# Altium schematic symbol library SamacSys.SchLib: 337 symbols (part 2 of 4)
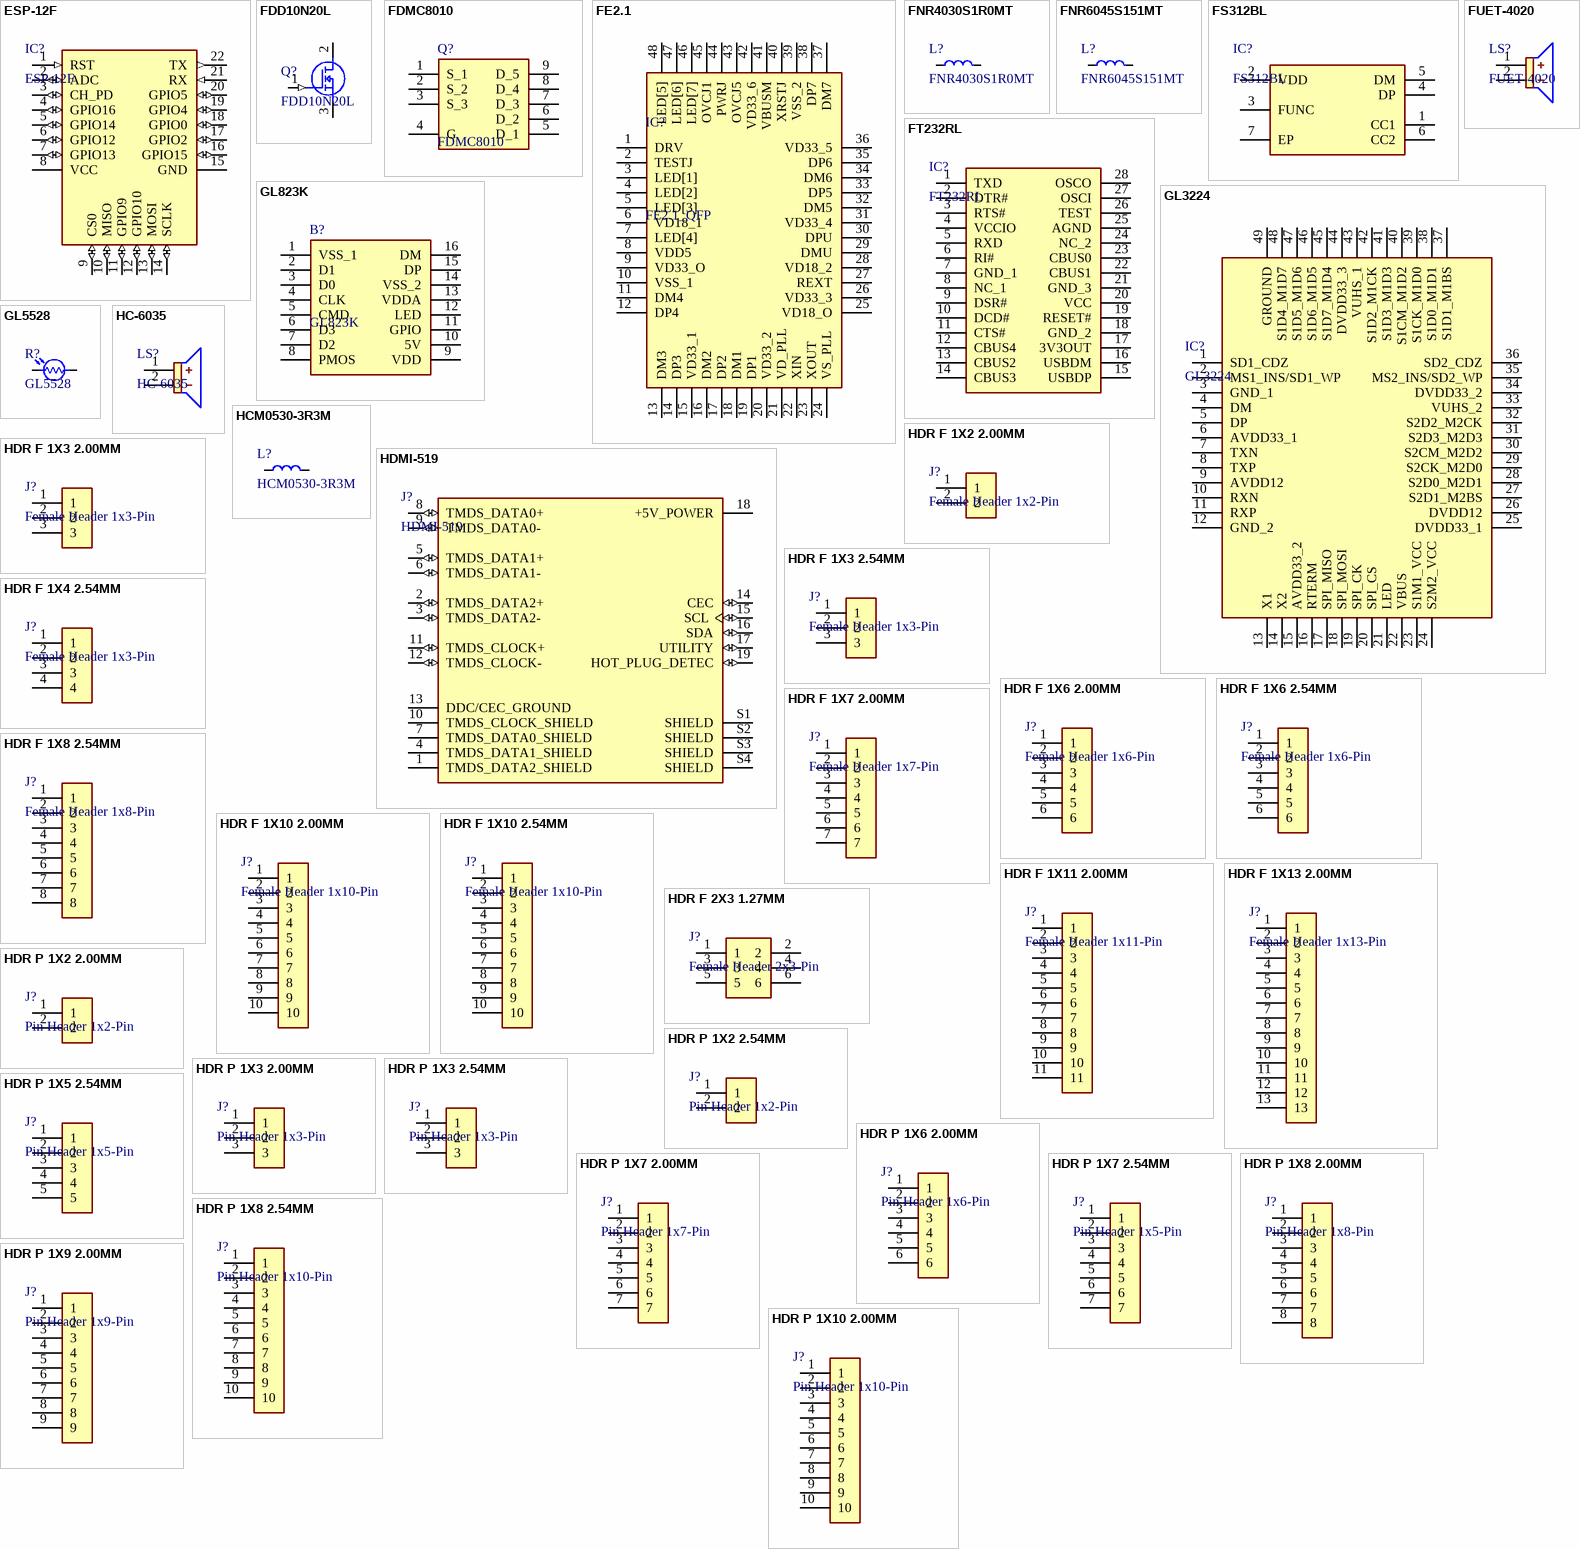
[diagram p11: symbols ESP-12F to HDR P 1X10 2.00MM]

## FE2.1
designator IC?, comment FE2.1_QFP
USB Converter, LQFP-48(7x7), USB 2.0, High Speed, 7-Port HUB Conrtoller, USB Converters ROHS; Manufacturer_Name: Terminus Technology; Geometry.Height: 1.6mm; Manufacturer_Part_Number: FE2.1_QFP; Mouser Part Number: *; Mouser Price/Stock: *; Arrow Part Number: *; Arrow Price/Stock: *; Datasheet Link: *; Value: FE2.1_QFP
footprint QFP50P900X900X160-48N
pins: 1 DRV, 2 TESTJ, 3 LED[1], 4 LED[2], 5 LED[3], 6 VD18_1, 7 LED[4], 8 VDD5, 9 VD33_O, 10 VSS_1, 11 DM4, 12 DP4, 13 DM3, 14 DP3, 15 VD33_1, 16 DM2, 17 DP2, 18 DM1, 19 DP1, 20 VD33_2, 21 VD_PLL, 22 XIN, 23 XOUT, 24 VS_PLL, 25 VD18_O, 26 VD33_3, 27 REXT, 28 VD18_2, 29 DMU, 30 DPU, 31 VD33_4, 32 DM5, 33 DP5, 34 DM6, 35 DP6, 36 VD33_5, 37 DM7, 38 DP7, 39 VSS_2, 40 XRSTJ, 41 VBUSM, 42 VD33_6, 43 OVCJ5, 44 PWRJ, 45 OVCJ1, 46 LED[7], 47 LED[6], 48 LED[5]

## FNR4030S1R0MT
designator L?
Fixed Inductor, SMD, 4x4mm, 1uH, 5.7A,  Magnetic Shielded Inductor, Fixed Inductors, RoHS; Value: FNR4030S1R0MT
footprint IND_SMD_4030
pins: 1, 2

## FNR6045S151MT
designator L?
Fixed Inductor, SMD, 6x6mm, 770mA, 150uH, Magnetic Shielded Inductor, ±20%, 880mA, 754mΩ, Fixed Inductors ROHS; Value: FNR6045S151MT
footprint IND_SMD_NR6045
footprint XR6*8-151K-L_FNR6045S151MT_SMD (Inductor)
pins: 1, 2

## FS312BL
designator IC?
USB Type-C PD Trigger, DFN2x2-6L, 5~20V, USB Type-C PD Triggers, ROHs; Value: FS312BL
footprint DFN2x2-6L
pins: 1 CC1, 2 VDD (power), 3 FUNC, 4 DP, 5 DM, 6 CC2, 7 EP

## FT232RL
designator IC?
USB Converter, SSOP-28-208mil, USB to UART, USB Converters ROHS; Datasheet Link: http://www.ftdichip.com/Support/Documents/DataSheets/ICs/DS_FT232R.pdf; Height: 2mm; Value: FT232RL
footprint SOP65P778X200-28N
pins: 1 TXD, 2 DTR#, 3 RTS#, 4 VCCIO, 5 RXD, 6 RI#, 7 GND_1, 8 NC_1, 9 DSR#, 10 DCD#, 11 CTS#, 12 CBUS4, 13 CBUS2, 14 CBUS3, 15 USBDP, 16 USBDM, 17 3V3OUT, 18 GND_2, 19 RESET#, 20 VCC, 21 GND_3, 22 CBUS1, 23 CBUS0, 24 NC_2, 25 AGND, 26 TEST, 27 OSCI, 28 OSCO

## FUET-4020
designator LS?
Buzzer, SMD, 4x4mm, 65dB, Passive (Externally Driven), Electromagnetic, 4kHz, Buzzers ROHS; Manufacturer_Name: Same Sky; Manufacturer_Part_Number: CMT-4023S-SMT-TR; Datasheet Link: https://www.sameskydevices.com/product/resource/cmt-4023s-smt-tr.pdf; Mouser Part Number: 490-CMT-4023S-SMT-TR; Mouser Price/Stock: https://www.mouser.co.uk/ProductDetail/CUI-Devices/CMT-4023S-SMT-TR?qs=qCxwlXJ4fnxjBoOShJwOAQ%3D%3D; Arrow Part Number: CMT-4023S-SMT-TR; Arrow Price/Stock: https://www.arrow.com/en/products/cmt-4023s-smt-tr/cui-devices?utm_currency=USD&region=nac; Value: FUET-4020
footprint FUET-4020
pins: 1, 2

## GL823K
designator B?
USB Converter, SSOP-16-150mil, USB Converters ROHS; Datasheet Link: http://www.electrodragon.com/w/images/c/cb/GL823K.pdf; Value: GL823K
footprint SOP64P600X175-16N
pins: 1 VSS_1, 2 D1, 3 D0, 4 CLK, 5 CMD, 6 D3, 7 D2, 8 PMOS, 9 VDD, 10 5V, 11 GPIO, 12 LED, 13 VDDA, 14 VSS_2, 15 DP, 16 DM

## GL3224
designator IC?
USB Converter, QFN-48(7x7mm), USB 3.1 Gen1, Dual/Single LUN Card Reader Controller, USB Converters ROHS; Datasheet Link: https://datasheet.lcsc.com/lcsc/1804172046_Genesys-Logic-GL3224-ONY04_C157358.pdf; Height: 0.8mm; Value: GL3224
footprint QFN50P700X700X80-49N
pins: 1 SD1_CDZ, 2 MS1_INS/SD1_WP, 3 GND_1, 4 DM, 5 DP, 6 AVDD33_1, 7 TXN, 8 TXP, 9 AVDD12, 10 RXN, 11 RXP, 12 GND_2, 13 X1, 14 X2, 15 AVDD33_2, 16 RTERM, 17 SPI_MISO, 18 SPI_MOSI, 19 SPI_CK, 20 SPI_CS, 21 LED, 22 VBUS, 23 S1M1_VCC, 24 S2M2_VCC, 25 DVDD33_1, 26 DVDD12, 27 S2D1_M2BS, 28 S2D0_M2D1, 29 S2CK_M2D0, 30 S2CM_M2D2, 31 S2D3_M2D3, 32 S2D2_M2CK, 33 VUHS_2, 34 DVDD33_2, 35 MS2_INS/SD2_WP, 36 SD2_CDZ, 37 S1D1_M1BS, 38 S1D0_M1D1, 39 S1CK_M1D0, 40 S1CM_M1D2, 41 S1D3_M1D3, 42 S1D2_M1CK, 43 VUHS_1, 44 DVDD33_3, 45 S1D7_M1D4, 46 S1D6_M1D5, 47 S1D5_M1D6, 48 S1D4_M1D7, 49 GROUND

## GL5528
designator R?
Photoresistor, Through Hole, P=3mm, 10kΩ~20kΩ, 540nm, 1MΩ, Photoresistors, ROHS; Datasheet Link: https://datasheet.datasheetarchive.com/originals/distributors/Datasheets-DGA19/1465.pdf; Value: GL5528
footprint Photoresistor
pins: 1, 2

## HC-6035
designator LS?
Buzzer, 6.7x3.5mm, 70dB, Passive (Externally Driven), Electromagnetic, 3.1kHz, Buzzers ROHS; Manufacturer_Name: Same Sky; Manufacturer_Part_Number: CMT-4023S-SMT-TR; Datasheet Link: https://www.sameskydevices.com/product/resource/cmt-4023s-smt-tr.pdf; Mouser Part Number: 490-CMT-4023S-SMT-TR; Mouser Price/Stock: https://www.mouser.co.uk/ProductDetail/CUI-Devices/CMT-4023S-SMT-TR?qs=qCxwlXJ4fnxjBoOShJwOAQ%3D%3D; Arrow Part Number: CMT-4023S-SMT-TR; Arrow Price/Stock: https://www.arrow.com/en/products/cmt-4023s-smt-tr/cui-devices?utm_currency=USD&region=nac; Value: HC-6035
footprint PB-0627PE
pins: 1, 2

## HCM0530-3R3M
designator L?
Fixed Inductor, SMD, 5.7x5.1mm, 3.3uH, 6A, Magnetic Shielded Inductor, ±20%, 46mΩ, Fixed Inductors ROHS; Value: HCM0530-3R3M
footprint IND_SMD_0520 (Inductor 0520 / 0530)
pins: 1, 2

## HDMI-519
designator J?
HDMI Connector, HDMI-C, SMD, -10℃~+60℃,  USB, DVI, HDMI Connector Assemblies, RoHS; MP: 2001-1-2-21-00-BK; MF: CNC Tech; Digi-Key_Purchase_URL: https://www.digikey.com/product-detail/en/cnc-tech/2001-1-2-21-00-BK/1175-1704-1-ND/4867013?utm_source=snapeda&utm_medium=aggregator&utm_campaign=symbol; Package: None; Digi-Key_Part_Number: 1175-1704-1-ND; Value: HDMI-519; SnapEDA_Link: https://www.snapeda.com/parts/2001-1-2-21-00-BK/CNC%20Tech/view-part/548992/?ref=snap
footprint HDMI-519 (Footprint not found)
pins: 1 TMDS_DATA2_SHIELD (power), 2 TMDS_DATA2+ (io), 3 TMDS_DATA2- (io), 4 TMDS_DATA1_SHIELD (power), 5 TMDS_DATA1+ (io), 6 TMDS_DATA1- (io), 7 TMDS_DATA0_SHIELD (power), 8 TMDS_DATA0+ (io), 9 TMDS_DATA0- (io), 10 TMDS_CLOCK_SHIELD (power), 11 TMDS_CLOCK+ (io), 12 TMDS_CLOCK- (io), 13 DDC/CEC_GROUND (power), 14 CEC (io), 15 SCL (io), 16 SDA (io), 17 UTILITY (io), 18 +5V_POWER (power), 19 HOT_PLUG_DETEC (io), S1 SHIELD (power), S2 SHIELD (power), S3 SHIELD (power), S4 SHIELD (power)

## HDR F 1X2 2.00MM
designator J?, comment Female Header 1x2-Pin
Female Header, 1x2-Pin, 2P, P=2.00mm, Direct Insert, H:4.3mm, W:2.4mm, D:2.8mm, Single Row, Black Brass, Top Square, Hole Plugin, 3A, 20mΩ, 550V, -40℃~+105℃, Female Headers, ROHS; Value: Female Header 1x2-Pin
footprint HEADER_FEMALE_2PIN_2.0MM
pins: 1, 2

## HDR F 1X3 2.00MM
designator J?, comment Female Header 1x3-Pin
Female Header, 1x3-Pin, 3P, P=2.00mm, Direct Insert, H:4.3mm, W:2.4mm, D:2.8mm, Single Row, Black Brass, Top Square, Hole Plugin, 3A, 20mΩ, 550V, -40℃~+105℃, Female Headers, ROHS; Value: Female Header 1x3-Pin
footprint HEADER_FEMALE_3PIN_2.0MM
pins: 1, 2, 3

## HDR F 1X3 2.54MM
designator J?, comment Female Header 1x3-Pin
Female Header, 1x3-Pin, 3P, P=2.54mm, Direct Insert, H:8.5mm, W:2.54mm, D:3.2mm, Single Row, Black Brass, Top Square, Hole Plugin, 3A, 20mΩ, 1000V, -40℃~+105℃, Female Headers, ROHS; Value: Female Header 1x3-Pin
footprint HEADER_FEMALE_3PIN_LOW
footprint HEADER_FEMALE_3PIN
pins: 1, 2, 3

## HDR F 1X4 2.54MM
designator J?, comment Female Header 1x3-Pin
Female Header, 1x4-Pin, 4P, P=2.54mm, Direct Insert, H:8.5mm, W:2.54mm, D:3.2mm, Single Row, Black Brass, Top Square, Hole Plugin, 3A, 20mΩ, 1000V, -40℃~+105℃, Female Headers, ROHS; Value: Female Header 1x3-Pin
footprint HEADER_FEMALE_4PIN_LOW
pins: 1, 2, 3, 4

## HDR F 1X6 2.00MM
designator J?, comment Female Header 1x6-Pin
Female Header, 1x6-Pin, 6P, P=2.00mm, Direct Insert, H:4.3mm, W:2.4mm, D:2.8mm, Single Row, Black Brass, Top Square, Hole Plugin, 3A, 20mΩ, 550V, -40℃~+105℃, Female Headers, ROHS; Value: Female Header 1x6-Pin
footprint HEADER_FEMALE_6PIN_2.00MM (PBS2-6)
pins: 1, 2, 3, 4, 5, 6

## HDR F 1X6 2.54MM
designator J?, comment Female Header 1x6-Pin
Female Header, 1x6-Pin, 6P, P=2.54mm, Direct Insert, H:8.5mm, W:2.54mm, D:3.2mm, Single Row, Black Brass, Top Square, Hole Plugin, 3A, 20mΩ, 1000V, -40℃~+105℃, Female Headers, ROHS; Value: Female Header 1x6-Pin
footprint HEADER_FEMALE_6PIN_LOW (PBS2-6)
pins: 1, 2, 3, 4, 5, 6

## HDR F 1X7 2.00MM
designator J?, comment Female Header 1x7-Pin
Female Header, 1x7-Pin, 7P, P=2.00mm, Direct Insert, H:4.3mm, W:2.4mm, D:2.8mm, Single Row, Black Brass, Top Square, Hole Plugin, 3A, 20mΩ, 550V, -40℃~+105℃, Female Headers, ROHS; Value: Female Header 1x7-Pin
footprint HEADER_FEMALE_7PIN_2.00mm (PBS2-7)
pins: 1, 2, 3, 4, 5, 6, 7

## HDR F 1X8 2.54MM
designator J?, comment Female Header 1x8-Pin
Female Header, 1x8-Pin, 8P, P=2.54mm, Direct Insert, H:8.5mm, W:2.54mm, D:3.2mm, Single Row, Black Brass, Top Square, Hole Plugin, 3A, 20mΩ, 1000V, -40℃~+105℃, Female Headers, ROHS; Value: Female Header 1x8-Pin
footprint HEADER_FEMALE_8PIN_LOW
footprint HEADER_FEMALE_8PIN
pins: 1, 2, 3, 4, 5, 6, 7, 8

## HDR F 1X10 2.00MM
designator J?, comment Female Header 1x10-Pin
Female Header, 1x10-Pin, 10P, P=2.00mm, Direct Insert, H:4.3mm, W:2.4mm, D:2.8mm, Single Row, Black Brass, Top Square, Hole Plugin, 3A, 20mΩ, 550V, -40℃~+105℃, Female Headers, ROHS; Value: Female Header 1x10-Pin
footprint HEADER_FEMALE_10PIN_2.0MM
pins: 1, 2, 3, 4, 5, 6, 7, 8, 9, 10

## HDR F 1X10 2.54MM
designator J?, comment Female Header 1x10-Pin
Female Header, 1x10-Pin, 10P, P=2.54mm, Direct Insert, H:8.5mm, W:2.54mm, D:3.2mm, Single Row, Black Brass, Top Square, Hole Plugin, 3A, 20mΩ, 1000V, -40℃~+105℃, Female Headers, ROHS; Value: Female Header 1x10-Pin
footprint HEADER_FEMALE_10PIN_LOW
footprint HEADER_FEMALE_10PIN
pins: 1, 2, 3, 4, 5, 6, 7, 8, 9, 10

## HDR F 1X11 2.00MM
designator J?, comment Female Header 1x11-Pin
Female Header, 1x11-Pin, 11P, P=2.00mm, Direct Insert, H:4.3mm, W:2.4mm, D:2.8mm, Single Row, Black Brass, Top Square, Hole Plugin, 3A, 20mΩ, 550V, -40℃~+105℃, Female Headers, ROHS; Value: Female Header 1x11-Pin
footprint HEADER_FEMALE_11PIN_2.0MM
pins: 1, 2, 3, 4, 5, 6, 7, 8, 9, 10, 11

## HDR F 1X13 2.00MM
designator J?, comment Female Header 1x13-Pin
Female Header, 1x13-Pin, 13P, P=2.00mm, Direct Insert, H:4.3mm, W:2.4mm, D:2.8mm, Single Row, Black Brass, Top Square, Hole Plugin, 3A, 20mΩ, 550V, -40℃~+105℃, Female Headers, ROHS; Value: Female Header 1x13-Pin
footprint HEADER_FEMALE_13PIN_2.0MM
pins: 1, 2, 3, 4, 5, 6, 7, 8, 9, 10, 11, 12, 13

## HDR F 2X3 1.27MM
designator J?, comment Female Header 2x3-Pin
Female Header, 2x3-Pin, 6P, P=1.27mm, Surface Mount, Vertical, H:4.3mm, W:3mm, D:0.2mm, Single Row, Black Brass, Top Square, Hole Plugin, 1A, Female Headers, ROHS; Value: Female Header 2x3-Pin
footprint HEADER_FEMALE_2PIN_X2_1.27MM
pins: 1, 2, 3, 4, 5, 6

## HDR P 1X2 2.00MM
designator J?, comment Pin Header 1x2-Pin
Pin Header, 1x2-Pin, 2P, Straight Policy, MH:3.9mm, BH:2mm, PL:2.8mm, Single Row, Black Brass, Top Square, Plugin, 1.5A, 20mΩ, 250V, -40℃~+105℃, Pin Headers, ROHS; Value: Pin Header 1x2-Pin
footprint HEADER_PIN_2PIN_2.0MM
pins: 1, 2

## HDR P 1X2 2.54MM
designator J?, comment Pin Header 1x2-Pin
Pin Header, 1x2-Pin, 2P, Straight Policy, MH:6mm, BH:2.5mm, PL:3mm, Single Row, Black Brass, Top Square, Plugin, 3A, 20mΩ, 250V, -40℃~+105℃, Pin Headers, ROHS; Value: Pin Header 1x2-Pin
footprint HEADER_PIN_2PIN
pins: 1, 2

## HDR P 1X3 2.00MM
designator J?, comment Pin Header 1x3-Pin
Pin Header, 1x3-Pin, 3P, Straight Policy, MH:3.9mm, BH:2mm, PL:2.8mm, Single Row, Black Brass, Top Square, Plugin, 1.5A, 20mΩ, 250V, -40℃~+105℃, Pin Headers, ROHS; Value: Pin Header 1x3-Pin
footprint HEADER_PIN_3PIN_2.0MM
pins: 1, 2, 3

## HDR P 1X3 2.54MM
designator J?, comment Pin Header 1x3-Pin
Pin Header, 1x3-Pin, 3P, Straight Policy, MH:6mm, BH:2.5mm, PL:3mm, Single Row, Black Brass, Top Square, Plugin, 3A, 20mΩ, 250V, -40℃~+105℃, Pin Headers, ROHS; Value: Pin Header 1x3-Pin
footprint HEADER_PIN_3PIN
pins: 1, 2, 3

## HDR P 1X5 2.54MM
designator J?, comment Pin Header 1x5-Pin
Pin Header, 1x5-Pin, 5P, Straight Policy, MH:6mm, BH:2.5mm, PL:3mm, Single Row, Black Brass, Top Square, Plugin, 3A, 20mΩ, 250V, -40℃~+105℃, Pin Headers, ROHS; Value: Pin Header 1x5-Pin
footprint HEADER_PIN_5PIN
pins: 1, 2, 3, 4, 5

## HDR P 1X6 2.00MM
designator J?, comment Pin Header 1x6-Pin
Pin Header, 1x6-Pin, 6P, Straight Policy, MH:3.9mm, BH:2mm, PL:2.8mm, Single Row, Black Brass, Top Square, Plugin, 1.5A, 20mΩ, 250V, -40℃~+105℃, Pin Headers, ROHS; Value: Pin Header 1x6-Pin
footprint HEADER_PIN_6PIN_2.00MM (PLS2-6)
pins: 1, 2, 3, 4, 5, 6

## HDR P 1X7 2.00MM
designator J?, comment Pin Header 1x7-Pin
Pin Header, 1x7-Pin, 7P, Straight Policy, MH:3.9mm, BH:2mm, PL:2.8mm, Single Row, Black Brass, Top Square, Plugin, 1.5A, 20mΩ, 250V, -40℃~+105℃, Pin Headers, ROHS; Value: Pin Header 1x7-Pin
footprint HEADER_PIN_7PIN_2.00MM (PLS2-7)
pins: 1, 2, 3, 4, 5, 6, 7

## HDR P 1X7 2.54MM
designator J?, comment Pin Header 1x5-Pin
Pin Header, 1x7-Pin, 7P, Straight Policy, MH:6mm, BH:2.5mm, PL:3mm, Single Row, Black Brass, Top Square, Plugin, 3A, 20mΩ, 250V, -40℃~+105℃, Pin Headers, ROHS; Value: Pin Header 1x5-Pin
footprint HEADER_PIN_7PIN
pins: 1, 2, 3, 4, 5, 6, 7

## HDR P 1X8 2.00MM
designator J?, comment Pin Header 1x8-Pin
Pin Header, 1x8-Pin, 8P, Straight Policy, MH:3.9mm, BH:2mm, PL:2.8mm, Single Row, Black Brass, Top Square, Plugin, 1.5A, 20mΩ, 250V, -40℃~+105℃, Pin Headers, ROHS; Value: Pin Header 1x8-Pin
footprint HEADER_PIN_8PIN_2.00MM (PLS2-8)
pins: 1, 2, 3, 4, 5, 6, 7, 8

## HDR P 1X8 2.54MM
designator J?, comment Pin Header 1x10-Pin
Pin Header, 1x8-Pin, 8P, Straight Policy, MH:6mm, BH:2.5mm, PL:3mm, Single Row, Black Brass, Top Square, Plugin, 3A, 20mΩ, 250V, -40℃~+105℃, Pin Headers, ROHS; Value: Pin Header 1x10-Pin
footprint HEADER_PIN_8PIN
pins: 1, 2, 3, 4, 5, 6, 7, 8, 9, 10

## HDR P 1X9 2.00MM
designator J?, comment Pin Header 1x9-Pin
Pin Header, 1x9-Pin, 9P, Straight Policy, MH:3.9mm, BH:2mm, PL:2.8mm, Single Row, Black Brass, Top Square, Plugin, 1.5A, 20mΩ, 250V, -40℃~+105℃, Pin Headers, ROHS; Value: Pin Header 1x9-Pin
footprint HEADER_PIN_9PIN_2.00MM (PLS2-9)
pins: 1, 2, 3, 4, 5, 6, 7, 8, 9

## HDR P 1X10 2.00MM
designator J?, comment Pin Header 1x10-Pin
Pin Header, 1x10-Pin, 10P, Straight Policy, MH:3.9mm, BH:2mm, PL:2.8mm, Single Row, Black Brass, Top Square, Plugin, 1.5A, 20mΩ, 250V, -40℃~+105℃, Pin Headers, ROHS; Value: Pin Header 1x10-Pin
footprint HEADER_PIN_10PIN_2.0MM
pins: 1, 2, 3, 4, 5, 6, 7, 8, 9, 10

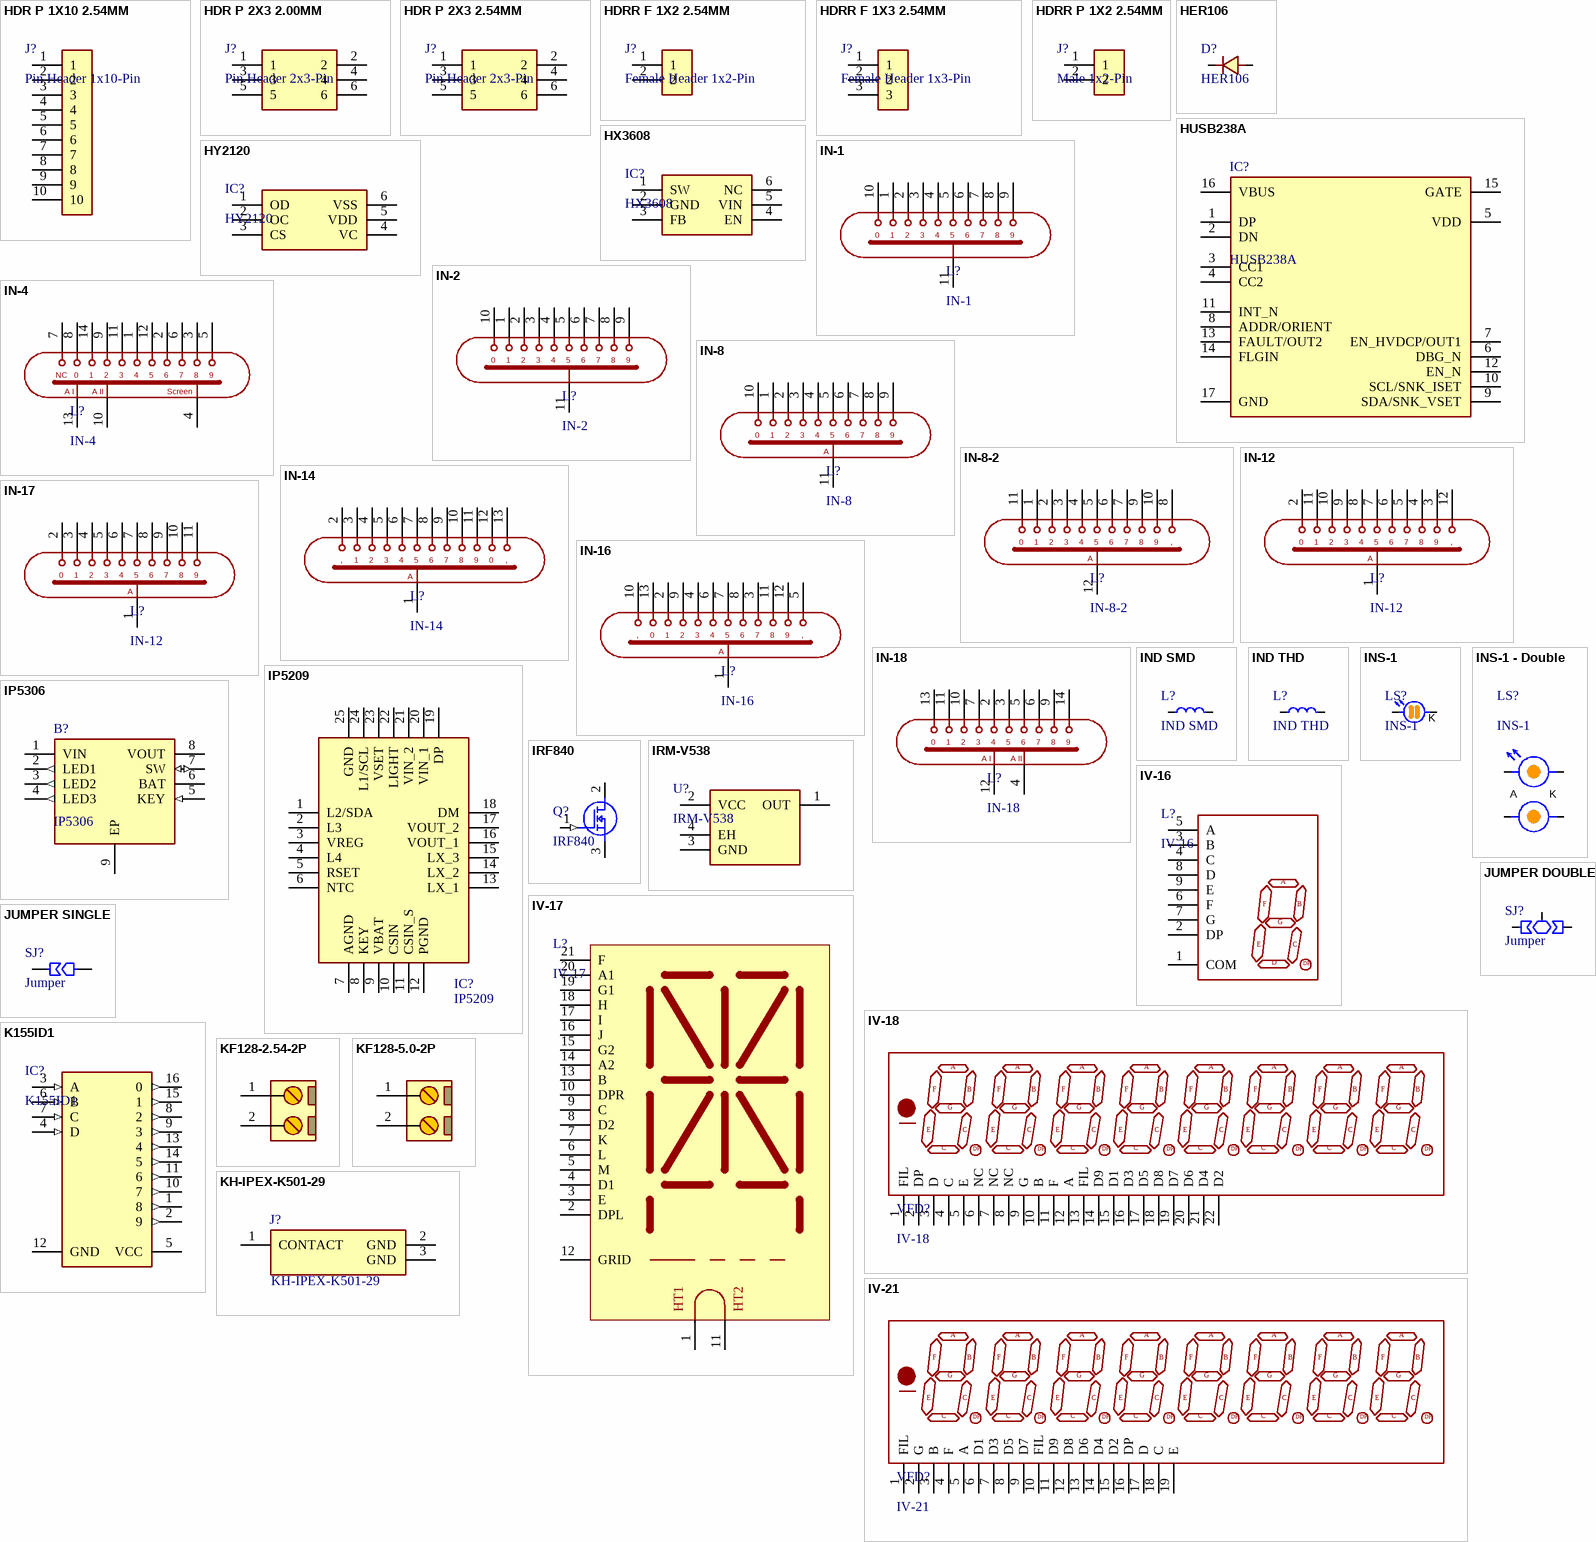
[diagram p4: symbols HDR P 1X10 2.54MM to KH-IPEX-K501-29]

## HDR P 1X10 2.54MM
designator J?, comment Pin Header 1x10-Pin
Pin Header, 1x10-Pin, 10P, Straight Policy, MH:6mm, BH:2.5mm, PL:3mm, Single Row, Black Brass, Top Square, Plugin, 3A, 20mΩ, 250V, -40℃~+105℃, Pin Headers, ROHS; Value: Pin Header 1x10-Pin
footprint HEADER_PIN_10PIN
pins: 1, 2, 3, 4, 5, 6, 7, 8, 9, 10

## HDR P 2X3 2.00MM
designator J?, comment Pin Header 2x3-Pin
Pin Header, 2x3-Pin, 6P, Straight Policy, MH:3.9mm, BH:2mm, PL:2.8mm, Double Row, Black Brass, Top Square, Plugin, 1.5A, 20mΩ, 250V, -40℃~+105℃, Pin Headers, ROHS; Value: Pin Header 2x3-Pin
footprint HEADER_PIN_3PIN_X2_2.00MM
pins: 1, 2, 3, 4, 5, 6

## HDR P 2X3 2.54MM
designator J?, comment Pin Header 2x3-Pin
Pin Header, 2x3-Pin, 6P, Straight Policy, MH:6mm, BH:2.5mm, PL:3mm, Double Row, Black Brass, Top Square, Plugin, 3A, 20mΩ, 250V, -40℃~+105℃, Pin Headers, ROHS; Value: Pin Header 2x3-Pin
footprint HEADER_PIN_3PIN_X2
pins: 1, 2, 3, 4, 5, 6

## HDRR F 1X2 2.54MM
designator J?, comment Female Header 1x2-Pin
Female Header, 1x2-Pin, 2P, P=2.54mm, Bend-in, H:8.5mm, W:2.54mm, D:3.2mm, Single Row, Black Brass, Top Square, Push-Pull, 3A, 20mΩ, 1000V, -40℃~+105℃, Female Headers, ROHS; Value: Female Header 1x2-Pin
footprint HEADER_RIGHT_FEMALE_2PIN (Connector; Header; 2 Position; Right Angle)
pins: 1, 2

## HDRR F 1X3 2.54MM
designator J?, comment Female Header 1x3-Pin
Female Header, 1x3-Pin, 3P, P=2.54mm, Bend-in, H:8.5mm, W:2.54mm, D:3.2mm, Single Row, Black Brass, Top Square, Push-Pull, 3A, 20mΩ, 1000V, -40℃~+105℃, Female Headers, ROHS; Value: Female Header 1x3-Pin
footprint HEADER_RIGHT_FEMALE_3PIN (Connector; Header; 3 Position; Right Angle)
pins: 1, 2, 3

## HDRR P 1X2 2.54MM
designator J?, comment Male 1x2-Pin
Pin Header, 1x2-Pin, 2P, Right Angle Policy, MH:6mm, BH:2.5mm, PL:3mm, Single Row, Black Brass, Top Square, Push-Pull, 3A, 20mΩ, 250V, -40℃~+105℃, Pin Headers, ROHS; Value: Male 1x2-Pin
footprint HEADER_RIGHT_PIN_2PIN (Connector; Header; 2 Position; Right Angle)
pins: 1, 2

## HER106
designator D?
Diode, THD, DO-41, 600V, 1A, 70ns, 1.7V@1A, Fast Recovery / High Efficiency Diodes, ROHS; Datasheet Link: https://www.alldatasheet.com/datasheet-pdf/pdf/2640/MOSPEC/HER106.html; Value: HER106
footprint DO-41 (DO-41 Package)
footprint DO-41 - VERTICAL (DO-41 Package)
pins: 1 Kathode, 2 Anode

## HUSB238A
designator IC?
Power Receiver Controller, QFN-16L-EP(3x3), Power Management - Specialized, RoHS; Manufacturer_Name: Hynetek; Geometry.Height: 0.8mm; Manufacturer_Part_Number: husb238a; Mouser Part Number: *; Mouser Price/Stock: *; Arrow Part Number: *; Arrow Price/Stock: *; Datasheet Link: https://www.hynetek.com/uploadfiles/site/219/news/24322c00-2276-4d74-98db-c74432318210.pdf; Value: HUSB238A
footprint QFN50P300X300X80-17N-D
pins: 1 DP, 2 DN, 3 CC1, 4 CC2, 5 VDD, 6 DBG_N, 7 EN_HVDCP/OUT1, 8 ADDR/ORIENT, 9 SDA/SNK_VSET, 10 SCL/SNK_ISET, 11 INT_N, 12 EN_N, 13 FAULT/OUT2, 14 FLGIN, 15 GATE, 16 VBUS, 17 GND

## HX3608
designator IC?
DC-DC Controller, SOT-23-6L, Boost Type, Adjustable, 2.5V~28V, 2V~24V, DC-DC Converters, ROHS; Manufacturer_Name: hengjiaxing; Datasheet Link: https://datasheet.lcsc.com/szlcsc/1811201211_hengjiaxing-HX3608_C296278.pdf; Height: 1.25mm; Manufacturer_Part_Number: HX3608; Value: HX3608
footprint SOT95P280X125-6N
pins: 1 SW, 2 GND, 3 FB, 4 EN, 5 VIN, 6 NC

## HY2120
designator IC?
Battery Management, SOT-23-6, 1.5V~10V, Lithium-ion/Polymer S2, Battery Management, ROHS; Value: HY2120
footprint SOT95P280X145-6N
pins: 1 OD (power), 2 OC (power), 3 CS (power), 4 VC (power), 5 VDD (power), 6 VSS (power)

## IN-1
designator L?
Nixie Tube, IN-1, USSR, Gas-Filed, Cold Cathode, 10-Digit, Numerical Indicator, Nixie Tubes; Value: IN-1
footprint IN-1
pins: 1, 2, 3, 4, 5, 6, 7, 8, 9, 10, 11
text: 0

## IN-2
designator L?
Nixie Tube, IN-2, USSR, Gas-Filed, Cold Cathode, 10-Digit, Numerical Indicator, Nixie Tubes; Value: IN-2
footprint IN-2
pins: 1, 2, 3, 4, 5, 6, 7, 8, 9, 10, 11
text: 0

## IN-4
designator L?
Nixie Tube, IN-4, USSR, Gas-Filed, Cold Cathode, 10-Digit, Numerical Indicator, Nixie Tubes; Value: IN-4
footprint IN-4
pins: 1, 2, 3, 4, 5, 6, 7, 8, 9, 10, 11, 12, 13, 14
text: NC; 0; A I; A II; Screen

## IN-8
designator L?
Nixie Tube, IN-8, USSR, Gas-Filed, Cold Cathode, 10-Digit, Numerical Indicator, Nixie Tubes; Value: IN-8
footprint IN-8
pins: 1, 2, 3, 4, 5, 6, 7, 8, 9, 10, 11
text: 0; A

## IN-8-2
designator L?
Nixie Tube, IN-8-2, USSR, Gas-Filed, Cold Cathode, 10-Digit, Numerical Indicator, Nixie Tubes; Value: IN-8-2
footprint IN-8-2
pins: 1, 2, 3, 4, 5, 6, 7, 8, 9, 10, 11, 12
text: 0; ,; A

## IN-12
designator L?
Nixie Tube, IN-12, USSR, Gas-Filed, Cold Cathode, 10-Digit, Numerical Indicator, Nixie Tubes; Value: IN-12
footprint IN-12
pins: 1, 2, 3, 4, 5, 6, 7, 8, 9, 10, 11, 12
text: 0; ,; A

## IN-14
designator L?
Nixie Tube, IN-14, USSR, Gas-Filed, Cold Cathode, 10-Digit, Numerical Indicator, Nixie Tubes; Value: IN-14
footprint IN-14
pins: 1, 2, 3, 4, 5, 6, 7, 8, 9, 10, 11, 12, 13
text: ,; 0; A

## IN-16
designator L?
Nixie Tube, IN-16, USSR, Gas-Filed, Cold Cathode, 10-Digit, Numerical Indicator, Nixie Tubes; Value: IN-16
footprint IN-16
pins: 1, 2, 3, 4, 5, 6, 7, 8, 9, 10, 11, 12, 13
text: ,; 0; A

## IN-17
designator L?, comment IN-12
Nixie Tube, IN-17, USSR, Gas-Filed, Cold Cathode, 10-Digit, Numerical Indicator, Nixie Tubes; Value: IN-12
footprint IN-17
pins: 1, 2, 3, 4, 5, 6, 7, 8, 9, 10, 11
text: 0; A

## IN-18
designator L?
Nixie Tube, IN-18, USSR, Gas-Filed, Cold Cathode, 10-Digit, Numerical Indicator, Nixie Tubes; Value: IN-18
footprint IN-18
pins: 2, 3, 4, 5, 6, 7, 9, 10, 11, 12, 13, 14
text: 0; 1; 8; A I; A II

## IND SMD
designator L?
Inductor, SMD; Value: IND SMD
footprint CDRH104R
footprint CD54 (Inductor)
footprint IND_SMD_0603_(M1608) (SMD Inductor)
footprint IND_SMD_0402_(M1005) (SMD Inductor)
footprint IND_SMD_2520
footprint IND_SMD_2622
footprint IND_SMD_0520 (Inductor 0520 / 0530)
footprint IND_SMD_NR5040
footprint IND_SMD_NR6045
pins: 1, 2

## IND THD
designator L?
Inductor, THD; Value: IND THD
footprint SBCP80HY151H
pins: 1, 2

## INS-1
designator LS?
Nixie Dot INS-1; Value: INS-1
footprint INS-1
pins: 1, 2
text: K

## INS-1 - Double
designator LS?, comment INS-1
Nixie Dot INS-1; Value: INS-1
footprint INS-1 - DOUBLE
pins: 1, 2, 3, 4
text: A; K

## IP5209
designator IC?
Battery Management, QFN-24-EP(4x4), 4.75V~5.5V, Lithium-ion/Polymer S1, Battery Management, ROHS; Manufacturer_Name: INJOINIC; Geometry.Height: 0.8mm; Manufacturer_Part_Number: IP5209; Mouser Part Number: *; Mouser Price/Stock: *; Arrow Part Number: *; Arrow Price/Stock: *; Datasheet Link: http://www.injoinic.com/wwwroot/uploads/files/20200221/e5285ef970d502a38b9466569d9487de.pdf; Value: IP5209
footprint QFN50P400X400X80-25N-D
pins: 1 L2/SDA, 2 L3, 3 VREG, 4 L4, 5 RSET, 6 NTC, 7 AGND, 8 KEY, 9 VBAT, 10 CSIN, 11 CSIN_S, 12 PGND, 13 LX_1, 14 LX_2, 15 LX_3, 16 VOUT_1, 17 VOUT_2, 18 DM, 19 DP, 20 VIN_1, 21 VIN_2, 22 LIGHT, 23 VSET, 24 L1/SCL, 25 GND

## IP5306
designator B?
Battery Management, ESOP-8, 4.65V~5.5V, Lithium-ion/Polymer S1, Battery Management, ROHS; Datasheet Link: https://datasheetspdf.com/pdf-file/1139129/Injoinic/IP5306/1; Value: IP5306
footprint SOIC127P600X165-9N
pins: 1 VIN (power), 2 LED1 (out), 3 LED2 (out), 4 LED3 (out), 5 KEY (in), 6 BAT (power), 7 SW (io), 8 VOUT (power), 9 EP (power)

## IRF840
designator Q?
MOSFET (N-Channel), TO-220AB-3, 500V, 8A, 0.85Ω@10V, 4.8A, 4V, 1 N-channel, MOSFETs, ROHS; Datasheet Link: https://datasheet.datasheetarchive.com/originals/distributors/Datasheets-5/DSA-95207.pdf; Height: 4.6mm; Value: IRF840
footprint TO-220
pins: 1 G (in), 2 D (power), 3 S (power)

## IRM-V538
designator U?
Infrared Remote Receiver (IRM), 38kHz, 8m, 1.2mA, 2.7V~5.5V, Infrared Remote Receivers (IRM), ROHS; Manufacturer_Name: Texas Instruments; Manufacturer_Part_Number: SN74LVC2G04DBVR; Datasheet Link: http://www.ti.com/lit/gpn/sn74lvc2g04; Height: 1.45mm; Mouser Part Number: 595-SN74LVC2G04DBVR; Mouser Price/Stock: https://www.mouser.co.uk/ProductDetail/Texas-Instruments/SN74LVC2G04DBVR?qs=HE9hdJajmeqXJJ9RII89dg%3D%3D; Arrow Part Number: SN74LVC2G04DBVR; Arrow Price/Stock: https://www.arrow.com/en/products/sn74lvc2g04dbvr/texas-instruments?utm_currency=USD&region=nac; Value: IRM-V538
footprint IRM-V538 (IR Remote Receiver)
pins: 1 OUT, 2 VCC, 3 GND, 4 EH

## IV-16
designator L?
Numitron Tube IV-9, IV-16; Value: IV-16
footprint IV-16 (Numitron)
footprint IV-9 (Numitron)
pins: 1 COM, 2 DP, 3 B, 4 C, 5 A, 6 F, 7 G, 8 D, 9 E

## IV-17
designator L?
VFD Indicator, USSR; Value: IV-17
footprint iv-17
pins: 1 HT1, 2 DPL, 3 E, 4 D1, 5 M, 6 L, 7 K, 8 D2, 9 C, 10 DPR, 11 HT2, 12 GRID, 13 B, 14 A2, 15 G2, 16 J, 17 I, 18 H, 19 G1, 20 A1, 21 F

## IV-18
designator VFD?
VFD Indicator, USSR; Value: IV-18
footprint IV-18 (IV-18 USSR VFD Indicator)
pins: 1 FIL, 2 DP, 3 D, 4 C, 5 E, 6 NC, 7 NC, 8 NC, 9 G, 10 B, 11 F, 12 A, 13 FIL, 14 D9, 15 D1, 16 D3, 17 D5, 18 D8, 19 D7, 20 D6, 21 D4, 22 D2

## IV-21
designator VFD?
VFD Indicator, USSR; Value: IV-21
footprint IV-21
pins: 1 FIL, 2 G, 3 B, 4 F, 5 A, 6 D1, 7 D3, 8 D5, 9 D7, 10 FIL, 11 D9, 12 D8, 13 D6, 14 D4, 15 D2, 16 DP, 17 D, 18 C, 19 E

## JUMPER DOUBLE
designator SJ?, comment Jumper  (no BOM)
Jumper Solder; Value: Jumper
footprint JUMPER_0603_X2
footprint JUMPER_0402_X2
pins: 1, 2, 3

## JUMPER SINGLE
designator SJ?, comment Jumper  (no BOM)
Jumper Solder; Value: Jumper
footprint JUMPER_0603
footprint JUMPER_20X50 (JUMPER SOLDER 0.2X0.5MM)
footprint JUMPER_0402
pins: 1, 2

## K155ID1
designator IC?
Decoder, DIP-16, 5V±5%, 25mA, 150ns, High Voltage Output, BCD to Decimal Decoders, RoHS; Datasheet Link: http://pdf1.alldatasheet.com/datasheet-pdf/view/115763/TI/SN74141.html; Height: 5.08mm; Value: K155ID1
footprint DIP16
footprint DIP16 - SMA
pins: 1 8 (out), 2 9 (out), 3 A (in), 4 D (in), 5 VCC (power), 6 B (in), 7 C (in), 8 2 (out), 9 3 (out), 10 7 (out), 11 6 (out), 12 GND (power), 13 4 (out), 14 5 (out), 15 1 (out), 16 0 (out)

## KF128-2.54-2P
designator J?, comment KF128  (value not drawn)
Screw Terminal Block, 1x2P, 2.54mm, 250V, 24A, -40℃~+105℃, Green, 12~22, Direct Insert Plugin, Screw Terminal Blocks, ROHS; VALUE: KF128
footprint KF128_2.54_2P
pins: 1, 2

## KF128-5.0-2P
designator J?, comment KF128  (value not drawn)
Screw Terminal Block, 1x2P, 5.00mm, 250V, 24A, -40℃~+105℃, Green, 12~22, Direct Insert Plugin, Screw Terminal Blocks, ROHS; VALUE: KF128
footprint KF128_5.08_2P (Terminal Block Green)
pins: 1, 2

## KH-IPEX-K501-29
designator J?
Coaxial Connector (RF), SMD, 1, Male Pin, IPEX, Board Side, 1.25mm, -40℃~+90℃, 3GHz, 50Ω, 2mm, Coaxial Connectors (RF), ROHS; Manufacturer_Name: Shenzhen Kinghelm Elec; Manufacturer_Part_Number: KH-IPEX-K501-29; Mouser Part Number: *; Mouser Price/Stock: *; Arrow Part Number: *; Arrow Price/Stock: *; Datasheet Link: https://datasheet.lcsc.com/szlcsc/1911041032_Shenzhen-Kinghelm-Elec-KH-IPEX-K501-29_C411563.pdf; Geometry.Height: 1.25mm; Value: KH-IPEX-K501-29
footprint KHIPEXK50129
pins: 1 CONTACT, 2 GND, 3 GND

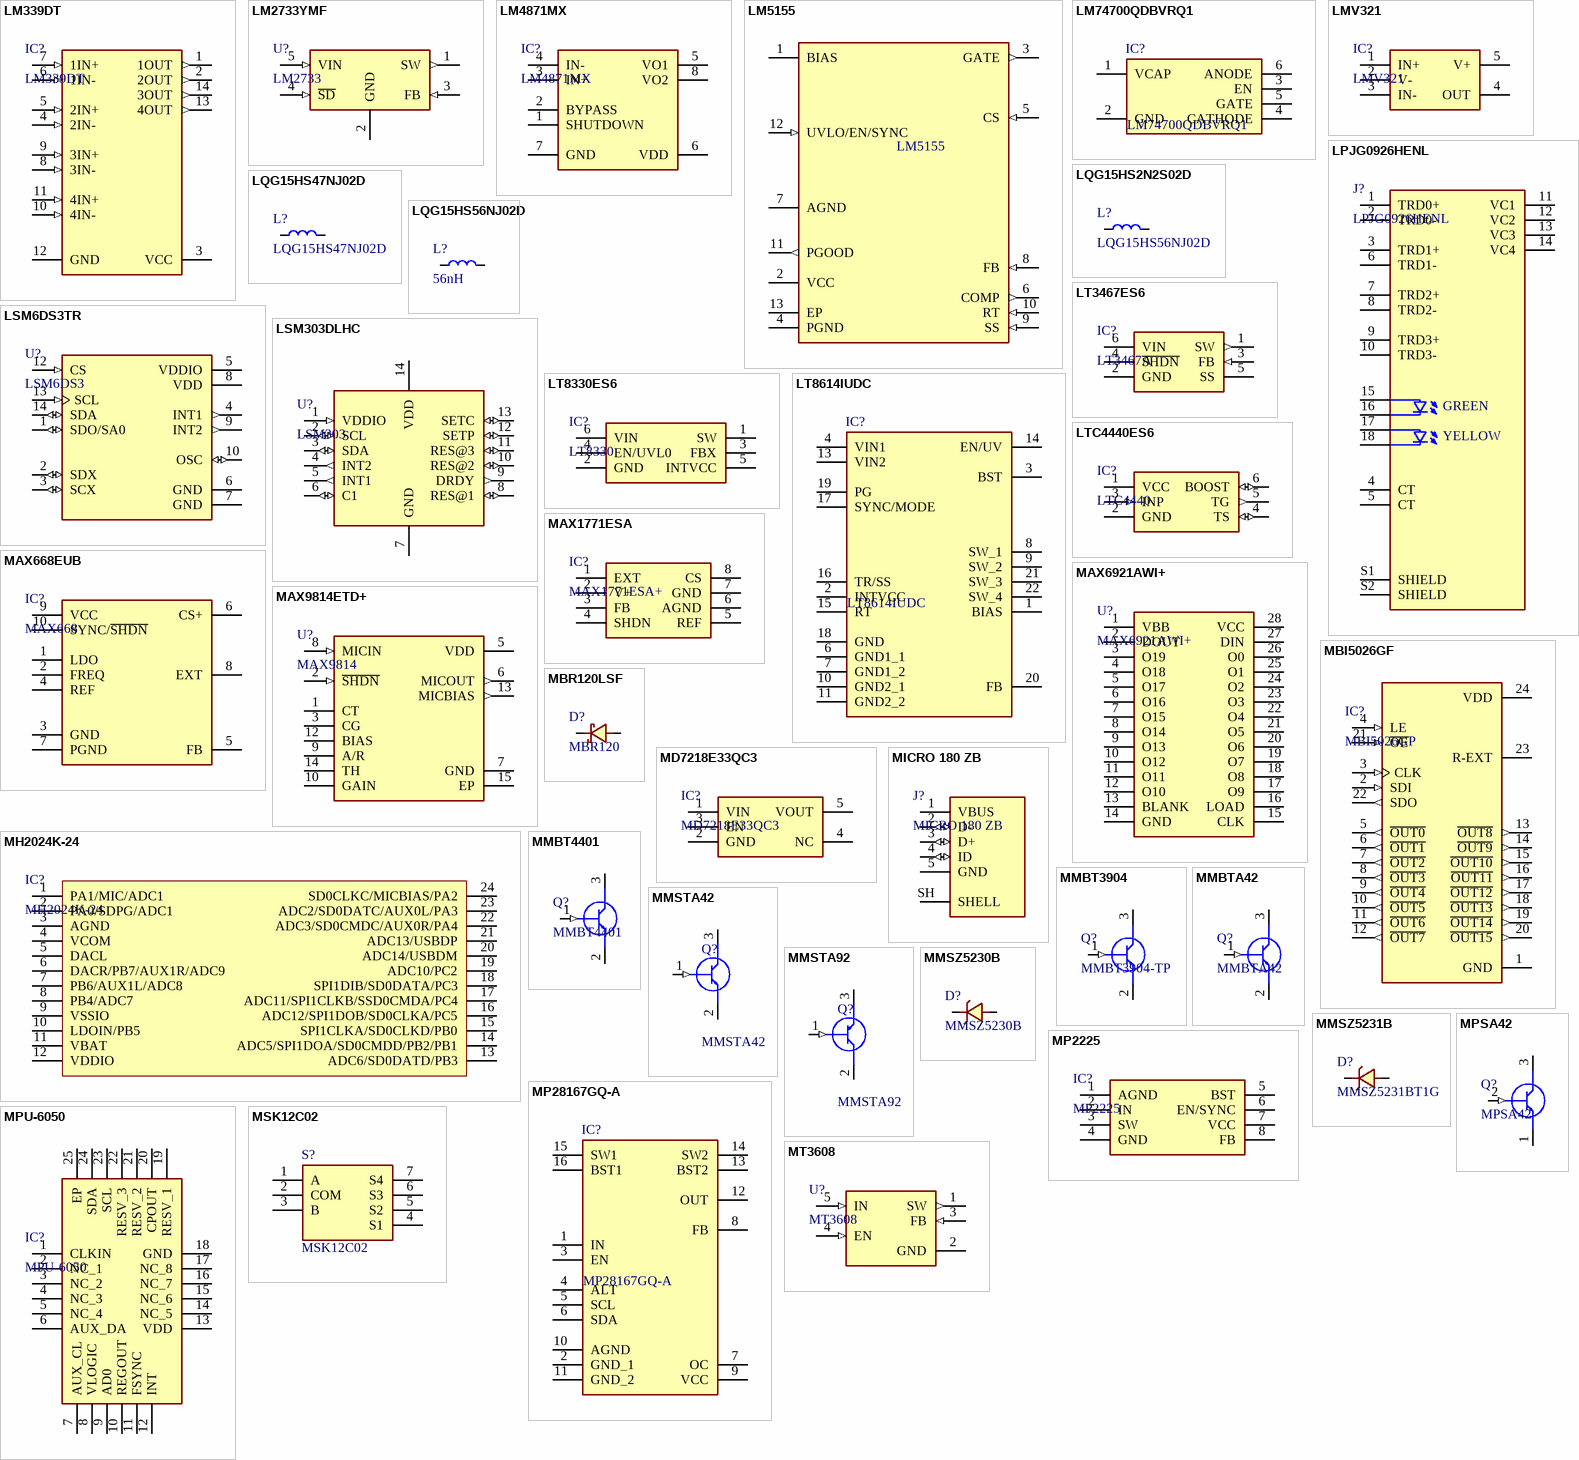
[diagram p5: symbols LM339DT to MT3608]

## LM339DT
designator IC?
Linear Comparator, SOP-14, 25nA, 4, Linear Comparators, RoHS; MF: STMicroelectronics; SnapEDA_Link: https://www.snapeda.com/parts/LM339DT/STMicroelectronics/view-part/?ref=snap; Package: SOIC-14 STMicroelectronics; Value: LM339DT; MP: LM339DT; Check_prices: https://www.snapeda.com/parts/LM339DT/STMicroelectronics/view-part/?ref=eda
footprint SOIC127P600X175-14N
pins: 1 1OUT (out), 2 2OUT (out), 3 VCC (power), 4 2IN- (in), 5 2IN+ (in), 6 1IN- (in), 7 1IN+ (in), 8 3IN- (in), 9 3IN+ (in), 10 4IN- (in), 11 4IN+ (in), 12 GND (power), 13 4OUT (out), 14 3OUT (out)

## LM2733YMF
designator U?, comment LM2733
DC-DC Converter, SOT-23-5, Boost Type, Adjustable, 2.7V~40V, 1A, 2.7V~14V, DC-DC Converters, ROHS; MP: LM2733YMF; MF: Texas Instruments; Price: None; Check_prices: https://www.snapeda.com/parts/LM2733YMF/Texas%20Instruments/view-part/100713/?ref=eda; Package: SOT-23-5 Texas Instruments; Availability: Good; SnapEDA_Link: https://www.snapeda.com/parts/LM2733YMF/Texas%20Instruments/view-part/100713/?ref=snap; Value: LM2733; Purchase-URL: https://pricing.snapeda.com/search/part/LM2733YMF/?ref=eda
footprint SOT95P280X145-5N
pins: 1 SW (out), 2 GND (power), 3 FB (in), 4 ~{SD} (in), 5 VIN (in)

## LM4871MX
designator IC?
Audio Amplifier, SOIC-8, Monaural, 3Wx1@3Ω, AB Class Amplifier, Audio Amplifiers, ROHS; Datasheet Link: http://www.ti.com/general/docs/suppproductinfo.tsp?distId=10&gotoUrl=http%3A%2F%2Fwww.ti.com%2Flit%2Fgpn%2Flm4871; Height: 1.75mm; Value: LM4871MX
footprint SOIC127P600X175-8N
pins: 1 SHUTDOWN, 2 BYPASS, 3 IN+, 4 IN-, 5 VO1, 6 VDD, 7 GND, 8 VO2

## LM5155
designator IC?
DC-DC Controller, WSON-12-EP(2x3),  Boost Type, Adjustable, 3.5V~45V, 1.5A, DC-DC Controllers, ROHS; MF: Texas Instruments; MP: LM5155DSSR; SnapEDA_Link: https://www.snapeda.com/parts/LM5155DSSR/Texas+Instruments/view-part/?ref=snap; Package: WSON-12 Texas Instruments; Value: LM5155; Check_prices: https://www.snapeda.com/parts/LM5155DSSR/Texas+Instruments/view-part/?ref=eda
footprint WSON-12-EP(2x3)
pins: 1 BIAS (power), 2 VCC (power), 3 GATE (out), 4 PGND (power), 5 CS (in), 6 COMP (out), 7 AGND (power), 8 FB (in), 9 SS (in), 10 RT (in), 11 PGOOD (out), 12 UVLO/EN/SYNC (in), 13 EP (power)

## LM74700QDBVRQ1
designator IC?
ORing Controller, SOT-23-6, ORing Controllers ROHS; Manufacturer_Name: Texas Instruments; Geometry.Height: 1.45mm; Manufacturer_Part_Number: LM74700QDBVRQ1; Mouser Part Number: 595-LM74700QDBVRQ1; Mouser Price/Stock: https://www.mouser.co.uk/ProductDetail/Texas-Instruments/LM74700QDBVRQ1?qs=j%252B1pi9TdxUYjAZhGV8eSkQ%3D%3D; Arrow Part Number: LM74700QDBVRQ1; Arrow Price/Stock: https://www.arrow.com/en/products/lm74700qdbvrq1/texas-instruments?utm_currency=USD&region=nac; Datasheet Link: http://www.ti.com/lit/gpn/LM74700-Q1; Value: LM74700QDBVRQ1
footprint SOT95P280X145-6N
pins: 1 VCAP, 2 GND, 3 EN, 4 CATHODE, 5 GATE, 6 ANODE

## LMV321
designator IC?
Operational Amplifier, SOT-23-5, Single Channel,  11nA, 1V/us, 1MHz, 7mV,  Operational Amplifier, ROHS; Manufacturer_Name: Texas Instruments; Manufacturer_Part_Number: LMV321M7; Datasheet Link: https://www.digikey.com/product-detail/en/texas-instruments/LMV321M7-NOPB/LMV321M7-NOPBCT-ND/270767; Height: 1.1mm; Mouser Part Number: 926-LMV321M7; Mouser Price/Stock: https://www.mouser.com/Search/Refine.aspx?Keyword=926-LMV321M7; Arrow Part Number: LMV321M7; Arrow Price/Stock: https://www.arrow.com/en/products/lmv321m7/texas-instruments; Value: LMV321
footprint SOT65P210X110-5N
pins: 1 IN+, 2 V-, 3 IN-, 4 OUT, 5 V+

## LPJG0926HENL
designator J?
Through Hole Modular/Ethernet Connector Jacks With Magnetics, RoHS; MP: A70-112-331N126; Package: None; Availability: Unavailable; Value: LPJG0926HENL; Price: None
footprint EDAC_A70-112-331N126
pins: 1 TRD0+, 2 TRD0-, 3 TRD1+, 4 CT, 5 CT, 6 TRD1-, 7 TRD2+, 8 TRD2-, 9 TRD3+, 10 TRD3-, 11 VC1, 12 VC2, 13 VC3, 14 VC4, 15 G_A, 16 G_K, 17 Y_A, 18 Y_K, S1 SHIELD, S2 SHIELD
text: GREEN; YELLOW

## LQG15HS2N2S02D
designator L?, comment LQG15HS56NJ02D
Fixed Inductor, SMD, 0402, 2.2nH, 900mA, ±5%, 90mΩ, Fixed Inductors, RoHS; Value: LQG15HS56NJ02D
footprint IND_SMD_0402_(M1005) (SMD Inductor)
pins: 1, 2

## LQG15HS47NJ02D
designator L?
Fixed Inductor, SMD, 0402, 47nH, 300mA, ±5%, 720mΩ, Fixed Inductors, RoHS; Value: LQG15HS47NJ02D
footprint IND_SMD_0402_(M1005) (SMD Inductor)
pins: 1, 2

## LQG15HS56NJ02D
designator L?, comment 56nH
Fixed Inductor, SMD, 0402, 56nH, 250mA, ±5%, 820mΩ, Fixed Inductors, RoHS; Value: 56nH
footprint IND_SMD_0402_(M1005) (SMD Inductor)
pins: 1, 2

## LSM6DS3TR
designator U?, comment LSM6DS3
Accelerometer, LGA-14(2.5x3), Gyroscope, Temperature, 6 Axis Sensor I²C, SPI, Accelerometers, ROHS; Value: LSM6DS3; Package: Package
footprint PQFN50P300X250X86-14N
pins: 1 SDO/SA0 (io), 2 SDX (io), 3 SCX (io), 4 INT1 (out), 5 VDDIO (power), 6 GND (power), 7 GND (power), 8 VDD (power), 9 INT2 (out), 10 OSC (io), 12 CS (in), 13 SCL (in), 14 SDA (io)

## LSM303DLHC
designator U?, comment LSM303
Accelerometer, LGA-14(3x5x1mm), Magnetometer, 6 Axis Sensor, I²C, Output, Accelerometers, ROHS; MF: STMicroelectronics; MP: LSM303DLHC; SnapEDA_Link: https://www.snapeda.com/parts/LSM303DLHC/STMicroelectronics/view-part/333990/?ref=snap; Value: LSM303; Availability: Unavailable; Price: None; Package: VFLGA-14 STMicroelectronics
footprint LGA80P300X500X100-14N (3x5mm, 0.8mm pitch, 14-contact LGA, 1.0mm height, bottom-side pads)
pins: 1 VDDIO (in), 2 SCL (io), 3 SDA (io), 4 INT2 (out), 5 INT1 (out), 6 C1 (io), 7 GND (power), 8 RES@1 (io), 9 DRDY (out), 10 RES@2 (io), 11 RES@3 (io), 12 SETP (io), 13 SETC (io), 14 VDD (power)

## LT3467ES6
designator IC?, comment LT3467A
DC-DC Converter, TSOT-23-6L, Boost Type, Adjustable, 1.1A, 1.255V~40V, 2.4V~16V, DC-DC Converters. ROHS; Manufacturer_Name: Analog Devices; Manufacturer_Part_Number: LT3467AES6#TRMPBF; Datasheet Link: https://www.analog.com/media/en/technical-documentation/data-sheets/3467afe.pdf; Height: 1mm; Mouser Part Number: 584-LT3467AES6TRMPBF; Mouser Price/Stock: https://www.mouser.co.uk/ProductDetail/Analog-Devices/LT3467AES6TRMPBF?qs=hVkxg5c3xu%2FHWVzAib%2Fzgg%3D%3D; Arrow Part Number: LT3467AES6#TRMPBF; Arrow Price/Stock: https://www.arrow.com/en/products/lt3467aes6trmpbf/analog-devices?region=nac; Value: LT3467A
footprint SOT95P280X100-6N
pins: 1 SW (out), 2 GND (power), 3 FB (in), 4 ~{SHDN}, 5 SS, 6 VIN (power)

## LT8330ES6
designator IC?, comment LT8330
DC-DC Converter, TSOT-23-6, Boost Type, Adjustable, 3V~40V, DC-DC Converters, ROHS; Manufacturer_Name: Analog Devices; Manufacturer_Part_Number: LT8330IS6#TRPBF; Datasheet Link: https://datasheet.datasheetarchive.com/originals/distributors/DKDS-14/269695.pdf; Height: 1mm; Mouser Part Number: 584-LT8330IS6#TRPBF; Mouser Price/Stock: https://www.mouser.co.uk/ProductDetail/Analog-Devices/LT8330IS6TRPBF?qs=oahfZPh6IALqPYlFr%252B96CA%3D%3D; Arrow Part Number: LT8330IS6#TRPBF; Arrow Price/Stock: https://www.arrow.com/en/products/lt8330is6trpbf/linear-technology; Value: LT8330
footprint SOT95P280X100-6N
pins: 1 SW, 2 GND (power), 3 FBX, 4 EN/UVL0, 5 INTVCC (power), 6 VIN (power)

## LT8614IUDC
designator IC?
Voltage Regulator, QFN-20(3x4), ,Buck, Adjustable, 3.3V~30V, 4A, 200kHz~3MHz, Voltage Regulators - DC DC Switching Regulators, RoHS; Manufacturer_Name: Analog Devices; Geometry.Height: 0.8mm; Manufacturer_Part_Number: LT8614IUDC; Mouser Part Number: *; Mouser Price/Stock: *; Arrow Part Number: *; Arrow Price/Stock: *; Datasheet Link: https://www.analog.com/LT8614/datasheet; Value: LT8614IUDC
footprint QFN50P300X400X100-19N
pins: 1 BIAS, 2 INTVCC, 3 BST, 4 VIN1, 6 GND1_1, 7 GND1_2, 8 SW_1, 9 SW_2, 10 GND2_1, 11 GND2_2, 13 VIN2, 14 EN/UV, 15 RT, 16 TR/SS, 17 SYNC/MODE, 18 GND, 19 PG, 20 FB, 21 SW_3, 22 SW_4

## LTC4440ES6
designator IC?, comment LTC4440
Gate Driver, TSOT-23-6L, High Side, 1 MOSFET, 2.4A, 10ns, 7ns, 8V~15V, 2.4A, Gate Drivers, ROHS; Manufacturer_Name: Analog Devices; Manufacturer_Part_Number: LTC4440ES6#TRMPBF; Datasheet Link: https://datasheet.datasheetarchive.com/originals/distributors/Datasheets-SFU1/DSASFU10007596.pdf; Height: 0.9mm; Mouser Part Number: 584-LTC4440ES6TRMPBF; Mouser Price/Stock: https://www.mouser.co.uk/ProductDetail/Analog-Devices/LTC4440ES6TRMPBF?qs=hVkxg5c3xu9RnYOgxV60xg%3D%3D; Arrow Part Number: LTC4440ES6#TRMPBF; Arrow Price/Stock: https://www.arrow.com/en/products/ltc4440es6trmpbf/analog-devices?utm_currency=USD&region=asia; Value: LTC4440
footprint SOT95P280X90-6N (Footprint not found)
pins: 1 VCC (power), 2 GND (power), 3 INP (in), 4 TS (io), 5 TG (out), 6 BOOST (io)

## MAX668EUB
designator IC?, comment MAX668
AC-DC Controller and Regulator, MSOP-10, 100kHz~500kHz, 3V~28V, AC-DC Controllers and Regulators, ROHS; Datasheet Link: http://datasheets.maximintegrated.com/en/ds/MAX668-MAX669.pdf; Height: 1.1mm; Value: MAX668
footprint SOP50P490X110-10N
pins: 1 LDO, 2 FREQ, 3 GND, 4 REF, 5 FB, 6 CS+, 7 PGND, 8 EXT, 9 VCC, 10 SYNC/~{SHDN}

## MAX1771ESA
designator IC?, comment MAX1771ESA+
DC-DC Converter, SOIC-8,  Boost Type, Adjustable, 3V~16.5V, DC-DC Converters, ROHS; Datasheet Link: http://datasheets.maximintegrated.com/en/ds/MAX1771.pdf; Height: 1.75mm; Value: MAX1771ESA+
footprint SOIC127P600X175-8N
pins: 1 EXT, 2 V+, 3 FB, 4 SHDN, 5 REF, 6 AGND, 7 GND, 8 CS

## MAX6921AWI+
designator U?
Digital Tube Driver, SOIC-28, Digital Tube Drivers, ROHS; Datasheet Link: https://mouser.componentsearchengine.com/Datasheets/2/MAX6921AWI+.pdf; Height: 2.65mm; Value: MAX6921AWI+
footprint SOIC127P1032X265-28N
pins: 1 VBB, 2 DOUT, 3 O19, 4 O18, 5 O17, 6 O16, 7 O15, 8 O14, 9 O13, 10 O12, 11 O11, 12 O10, 13 BLANK, 14 GND, 15 CLK, 16 LOAD, 17 O9, 18 O8, 19 O7, 20 O6, 21 O5, 22 O4, 23 O3, 24 O2, 25 O1, 26 O0, 27 DIN, 28 VCC

## MAX9814ETD+
designator U?, comment MAX9814
Audio Amplifier, TDFN-14-EP(3x3), Monaural, AB Class Amplifier, Audio Amplifiers, ROHS; MP: MAX9814ETD+; MF: Maxim Integrated; SnapEDA_Link: https://www.snapeda.com/parts/MAX9814ETD+/Maxim+Integrated/view-part/?ref=snap; Purchase-URL: https://pricing.snapeda.com/search/part/MAX9814ETD+/?ref=eda; Availability: In Stock; Value: MAX9814; Price: None; Package: None; Check_prices: https://www.snapeda.com/parts/MAX9814ETD+/Maxim+Integrated/view-part/?ref=eda
footprint SON40P300X300X80-15N
pins: 1 CT, 2 ~{SHDN} (in), 3 CG, 5 VDD (power), 6 MICOUT (out), 7 GND (power), 8 MICIN (in), 9 A/R, 10 GAIN, 12 BIAS, 13 MICBIAS (out), 14 TH, 15 EP (power)

## MBI5026GF
designator IC?, comment MBI5026GP
LED Driver, SOP-24-300mil, 25MHz, 16, LED Drivers, ROHS; Height: 1.75mm; Value: MBI5026GP
footprint SOP64P600X175-24N
pins: 1 GND (power), 2 SDI (in), 3 CLK (in), 4 LE (in), 5 ~{OUT0} (out), 6 ~{OUT1} (out), 7 ~{OUT2} (out), 8 ~{OUT3} (out), 9 ~{OUT4} (out), 10 ~{OUT5} (out), 11 ~{OUT6} (out), 12 ~{OUT7} (out), 13 ~{OUT8} (out), 14 ~{OUT9} (out), 15 ~{OUT10} (out), 16 ~{OUT11} (out), 17 ~{OUT12} (out), 18 ~{OUT13} (out), 19 ~{OUT14} (out), 20 ~{OUT15} (out), 21 ~{OE} (in), 22 SDO (out), 23 R-EXT, 24 VDD (power)

## MBR120LSF
designator D?, comment MBR120
Schottky Diode, SMD, SOD-123FL, 20V, 1A, 650mV@3A, Schottky Diodes, ROHS; Datasheet Link: http://www.onsemi.com/pub/Collateral/MBR120VLSFT1-D.PDF; Height: 0.98mm; Value: MBR120
footprint SOD-123FL (SMD Package)
pins: 1 Kathode, 2 Anode

## MD7218E33QC3
designator IC?
Low Drop Out (LDO) Regulator, SOT-23-5L, 1A, Fixed 3.3V, Positive 15V, Voltage Regulators - Linear, Low Drop Out (LDO) Regulators ROHS; Manufacturer_Name: Texas Instruments; Manufacturer_Part_Number: TPS73201DBVR; Datasheet Link: http://www.ti.com/lit/gpn/tps732; Height: 1.45mm; Mouser Part Number: 595-TPS73201DBVR; Mouser Price/Stock: https://www.mouser.co.uk/ProductDetail/Texas-Instruments/TPS73201DBVR?qs=6zVL%252ByCp0mqV4S9ad9oZ1A%3D%3D; Arrow Part Number: TPS73201DBVR; Arrow Price/Stock: null?region=nac; Value: MD7218E33QC3
footprint SOT95P280X145-5N
pins: 1 VIN, 2 GND, 3 EN, 4 NC, 5 VOUT

## MH2024K-24
designator IC?
MP3 Player; Value: MH2024K-24
footprint QSOP24
pins: 1 PA1/MIC/ADC1, 2 PA0/SDPG/ADC1, 3 AGND (power), 4 VCOM (power), 5 DACL, 6 DACR/PB7/AUX1R/ADC9, 7 PB6/AUX1L/ADC8, 8 PB4/ADC7, 9 VSSIO (power), 10 LDOIN/PB5, 11 VBAT (power), 12 VDDIO (power), 13 ADC6/SD0DATD/PB3, 14 ADC5/SPI1DOA/SD0CMDD/PB2/PB1, 15 SPI1CLKA/SD0CLKD/PB0, 16 ADC12/SPI1DOB/SD0CLKA/PC5, 17 ADC11/SPI1CLKB/SSD0CMDA/PC4, 18 SPI1DIB/SD0DATA/PC3, 19 ADC10/PC2, 20 ADC14/USBDM, 21 ADC13/USBDP, 22 ADC3/SD0CMDC/AUX0R/PA4, 23 ADC2/SD0DATC/AUX0L/PA3, 24 SD0CLKC/MICBIAS/PA2

## MICRO 180 ZB
designator J?
USB Connector, 1.8A, USB 2.0, Vertical Attachment, 5P, Female, -20℃~+85℃, Micro-B, SMD, USB Connectors, ROHS; Value: MICRO 180 ZB; Manufacturer_Part_Number: MICRO 180 ZB
footprint USB_MIICRO_VERTICAL (Vertical Micro USB)
pins: 1 VBUS (power), 2 D- (io), 3 D+ (io), 4 ID (io), 5 GND (power), SH SHELL (power)

## MMBT3904
designator Q?, comment MMBT3904-TP
Transistor Bipolar (BJT), NPN, SOT-23, 40V, 200mW, 300@10mA, 1V, 200mA, NPN Bipolar (BJT), ROHS; Datasheet Link: https://componentsearchengine.com/Datasheets/1/MMBT3904-TP.pdf; Value: MMBT3904-TP
footprint SI2305TP
pins: 1 B (in), 2 E (power), 3 C (power)

## MMBT4401
designator Q?
Transistor Bipolar (BJT), NPN, SOT-23, 40V, 225mW, 100@150mA, 1V, 600mA, NPN Bipolar (BJT) ROHS; Datasheet Link: http://www.onsemi.com/pub/Collateral/MMBT4401-D.PDF; Height: 1.2mm; Value: MMBT4401
footprint SOT95P240X120-3N
pins: 1 B (in), 2 E (power), 3 C (power)

## MMBTA42
designator Q?
Transistor Bipolar (BJT), NPN, SOT-23, 300V, 225mW, 25@10mA, 10V, 500mA, NPN Bipolar (BJT), ROHS; Datasheet Link: http://www.st.com/web/en/resource/technical/document/datasheet/CD00002980.pdf; Height: 1.4mm; Value: MMBTA42
footprint SOT105P255X140-3N
footprint SOT105P255X140-3N - SMA
pins: 1 B (in), 2 E (power), 3 C (power)

## MMSTA42
designator Q?
Transistor Bipolar (BJT), NPN, SOT-323, 300V, 300mW, 60@1mA,10V, 200mA, NPN Bipolar (BJT), ROHS; Manufacturer_Name: MCC; Manufacturer_Part_Number: MMSTA42-TP; Geometry.Height: 1.2mm; Mouser Part Number: 833-MMSTA42-TP; Mouser Price/Stock: https://www.mouser.co.uk/ProductDetail/Micro-Commercial-Components-MCC/MMSTA42-TP?qs=KFo7JewZbUFZf6KVzESQMw%3D%3D; Arrow Part Number: MMSTA42-TP; Arrow Price/Stock: https://www.arrow.com/en/products/mmsta42-tp/micro-commercial-components; Datasheet Link: https://www.mccsemi.com/pdf/Products/MMSTA42(SOT-323).pdf; Value: MMSTA42
footprint SOT65P228X120-3N
pins: 1 B (in), 2 E (power), 3 C (power)

## MMSTA92
designator Q?
Transistor Bipolar (BJT), PNP, SOT-323, 300V, 200mW, 100@10mA,10V, 200mA, PNP Bipolar (BJT), ROHS; Manufacturer_Name: MCC; Manufacturer_Part_Number: MMSTA42-TP; Geometry.Height: 1.2mm; Mouser Part Number: 833-MMSTA42-TP; Mouser Price/Stock: https://www.mouser.co.uk/ProductDetail/Micro-Commercial-Components-MCC/MMSTA42-TP?qs=KFo7JewZbUFZf6KVzESQMw%3D%3D; Arrow Part Number: MMSTA42-TP; Arrow Price/Stock: https://www.arrow.com/en/products/mmsta42-tp/micro-commercial-components; Datasheet Link: https://www.mccsemi.com/pdf/Products/MMSTA42(SOT-323).pdf; Value: MMSTA92
footprint SOT65P228X120-3N
pins: 1 B (in), 2 E (power), 3 C (power)

## MMSZ5230B
designator D?
Zener Diode, SMD, SOD-123, Independent Type, 4.47V~4.94V, 500mW, 4.7V,  Zener Diodes, ROHS; Manufacturer_Name: PANJIT; Manufacturer_Part_Number: MMSZ5230B-AU-R1; Datasheet Link: https://www.panjit.com.tw/upload/datasheet/MMSZ5221B-AU_SERIES.pdf; Height: 1.35mm; Value: MMSZ5230B
footprint SOD-123FL (SMD Package)
pins: 1 Kathode, 2 Anode

## MMSZ5231B
designator D?, comment MMSZ5231BT1G
Zener Diode, SMD, SOD-123, Independent Type, 4.85V~5.36V, 500mW, 5.1V,  Zener Diodes, ROHS; Datasheet Link: https://datasheet.datasheetarchive.com/originals/distributors/Datasheets_SAMA/69e8bf8de77318eea2cba0fbdd4d29c0.pdf; Height: 2.44mm; Value: MMSZ5231BT1G
footprint SOD-123FL (SMD Package)
pins: 1 Kathode, 2 Anode

## MP2225
designator IC?
DC-DC Controller, TSOT-23-8, Step-Down, Adjustable, 18V, 5A, 500kHz or Adjustable, High-Efficiency, Low IQ, DC-DC Controllers, ROHS; Datasheet Link: https://altium.componentsearchengine.com/Datasheets/1/MP2225GJ-P.pdf; Height: 1mm; Value: MP2225
footprint SOT65P280X100-8N
pins: 1 AGND, 2 IN, 3 SW, 4 GND, 5 BST, 6 EN/SYNC, 7 VCC, 8 FB

## MP28167GQ-A
designator IC?
DC-DC Converter, 16-PowerVFQFN, Buck-Boost Type, Adjustable, 2.8-22V, 3A, Switching Regulator, DC-DC Controllers, ROHS; Manufacturer_Name: Monolithic Power Systems (MPS); Manufacturer_Part_Number: MP28167GQ-A-P; Geometry.Height: 1mm; Mouser Part Number: 946-MP28167GQ-A-P; Mouser Price/Stock: https://www.mouser.co.uk/ProductDetail/Monolithic-Power-Systems-MPS/MP28167GQ-A-P?qs=GedFDFLaBXG8utzBQn8Rcg%3D%3D; Arrow Part Number: *; Arrow Price/Stock: *; Datasheet Link: https://www.monolithicpower.com/en/documentview/productdocument/index/version/2/document_type/Datasheet/lang/en/sku/MP28167GQ-A/document_id/9621/; Value: MP28167GQ-A
footprint QFN50P300X300X100-17N (3x3mm, 0.5mm pitch, 16-pin PowerVFQFN with EP, 1.0mm height)
pins: 1 IN, 2 GND_1, 3 EN, 4 ALT, 5 SCL, 6 SDA, 7 OC, 8 FB, 9 VCC, 10 AGND, 11 GND_2, 12 OUT, 13 BST2, 14 SW2, 15 SW1, 16 BST1

## MPSA42
designator Q?
Transistor Bipolar (BJT), NPN, TO-92-3, 300V, 625mW, 25@1.0mA, 10V, 500mA, Bipolar (BJT), ROHS; Datasheet Link: https://4donline.ihs.com/images/VipMasterIC/IC/CSEM/CSEM-S-A0010887283/CSEM-S-A0010887295-1.pdf?hkey=FB3F1F3F2A09A989A6BF9D772C3B8264; Height: 5.33mm; Value: MPSA42
footprint TO-92 (TO-92 Package)
pins: 1 E (power), 2 B (in), 3 C (power)

## MPU-6050
designator IC?
Accelerometer, QFN-24-EP(4x4), Gyroscope, Accelerometers, ROHS; Datasheet Link: https://product.tdk.com/system/files/dam/doc/product/sensor/mortion-inertial/imu/data_sheet/mpu-6000-datasheet1.pdf; Height: 0.95mm; Value: MPU-6050
footprint QFN50P400X400X100-25N
pins: 1 CLKIN, 2 NC_1, 3 NC_2, 4 NC_3, 5 NC_4, 6 AUX_DA, 7 AUX_CL, 8 VLOGIC, 9 AD0, 10 REGOUT, 11 FSYNC, 12 INT, 13 VDD, 14 NC_5, 15 NC_6, 16 NC_7, 17 NC_8, 18 GND, 19 RESV_1, 20 CPOUT, 21 RESV_2, 22 RESV_3, 23 SCL, 24 SDA, 25 EP

## MSK12C02
designator S?
SMD Slide Switch, Horizontal attachment, 50mA, Single Pole Double Throw (SPDT), 12V, 10,000 Times. SMD Slide Switches, ROHS; Manufacturer_Name: Shou Han; Geometry.Height: 1.4mm; Value: MSK12C02; Mouser Part Number: *; Mouser Price/Stock: *; Arrow Part Number: *; Arrow Price/Stock: *; Datasheet Link: https://shouhan.en.made-in-china.com/product/xsMEmqgOAXWB/China-Slide-Switch-Msk12c02-Slide-Switch-on-off-2-Position-1p2t-Spdt-Miniature-Horizontal-SMD-7p-Slide-Switch.html
footprint MSK12C02
pins: 1 A, 2 COM, 3 B, 4 S1, 5 S2, 6 S3, 7 S4

## MT3608
designator U?
DC-DC Controller, SOT-23-6, Boost Type, Adjustable, 28V, 2A, 2V~24V, 1.2MHz / DC-DC Converters, ROHS; Package: Package; Value: MT3608
footprint SOT95P280X145-6N
pins: 1 SW (out), 2 GND (power), 3 FB (in), 4 EN (in), 5 IN (in)

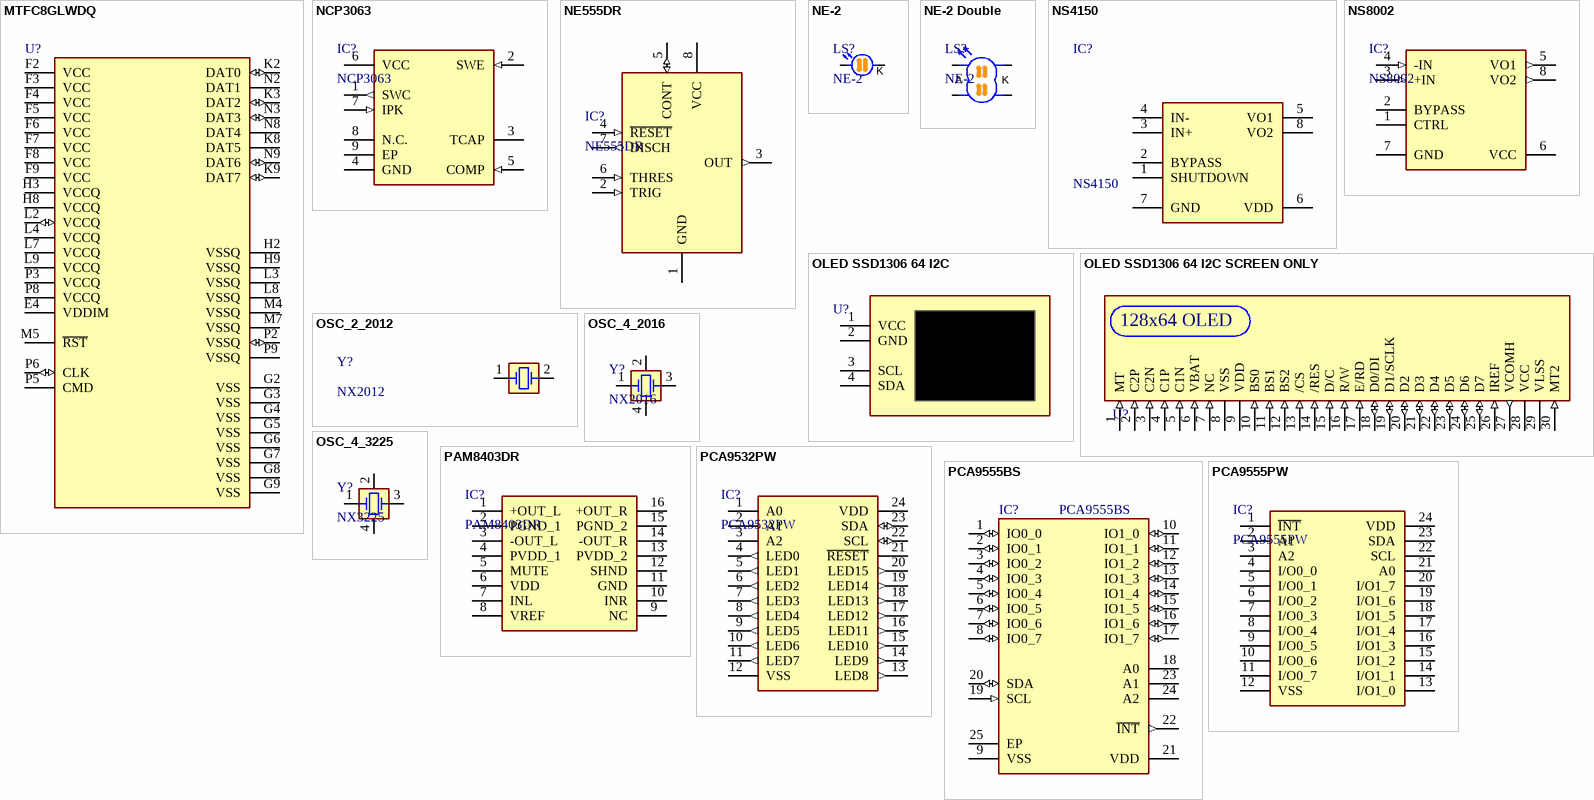
[diagram p6: symbols MTFC8GLWDQ to PCA9555PW]

## MTFC8GLWDQ
designator U?  (value not drawn)
NAND FLASH, LBGA-100(14x18), 2.7V~3.6V, 64Gbit,  NAND FLASH, ROHS; Value: MTFC8GLWDQ
footprint LBGA 100-Ball (Footprint not found)
pins: E4 VDDIM (power), F2 VCC (power), F3 VCC (power), F4 VCC (power), F5 VCC (power), F6 VCC (power), F7 VCC (power), F8 VCC (power), F9 VCC (power), G2 VSS (power), G3 VSS (power), G4 VSS (power), G5 VSS (power), G6 VSS (power), G7 VSS (power), G8 VSS (power), G9 VSS (power), H2 VSSQ (power), H3 VCCQ (power), H8 VCCQ, H9 VSSQ (power), K2 DAT0 (io), K3 DAT2 (io), K8 DAT5, K9 DAT7 (io), L2 VCCQ (io), L3 VSSQ (power), L4 VCCQ (power), L7 VCCQ, L8 VSSQ (power), L9 VCCQ (power), M4 VSSQ, M5 ~{RST} (power), M7 VSSQ, N2 DAT1, N3 DAT3 (io), N8 DAT4, N9 DAT6 (io), P2 VSSQ (io), P3 VCCQ (power), P5 CMD, P6 CLK (io), P8 VCCQ, P9 VSSQ (power)

## NCP3063
designator IC?
DC-DC Controller, SOIC-8, Adjustable, 1.25V~40V, 3V~40V, 1.5A, DC-DC Converters, ROHS; MF: ON Semiconductor; MP: NCP3063BDR2G; SnapEDA_Link: https://www.snapeda.com/parts/NCP3063BDR2G/Onsemi/view-part/?ref=snap; Package: SOIC-8 ON Semiconductor; Value: NCP3063; Check_prices: https://www.snapeda.com/parts/NCP3063BDR2G/Onsemi/view-part/?ref=eda
footprint SOIC127P600X175-8N
footprint SON65P300X300X100-9N
pins: 1 SWC (out), 2 SWE (in), 3 TCAP, 4 GND, 5 COMP (in), 6 VCC (power), 7 IPK (in), 8 N.C., 9 EP

## NE555DR
designator IC?
Timer / Counter, SOIC-8, 100kHz, Timers / Counters, ROHS; Datasheet Link: http://www.ti.com/lit/ds/symlink/ne555.pdf; Height: 1.75mm; Value: NE555DR
footprint SOIC127P600X175-8N
pins: 1 GND (power), 2 TRIG (in), 3 OUT (out), 4 ~{RESET} (in), 5 CONT (io), 6 THRES (in), 7 DISCH (out), 8 VCC (power)

## NE-2
designator LS?
Nixie Dot NE-2; Value: NE-2
footprint NE-2
pins: 1, 2
text: K

## NE-2 Double
designator LS?, comment NE-2
Nixie Dot NE-2; Value: NE-2
footprint NE-2 - DOUBLE
pins: 1, 2, 3, 4
text: A; K

## NS4150
designator IC?
Audio Amplifier, MSOP-8-EP, Monaural, 3Wx1@4Ω, Class D Amplifier, Audio Amplifiers, ROHS; MF: NSIWAY; SnapEDA_Link: https://www.snapeda.com/parts/NS4150/NSIWAY/view-part/?ref=snap; Package: Package; MP: NS4150; Check_prices: https://www.snapeda.com/parts/NS4150/NSIWAY/view-part/?ref=eda; Value: NS4150
footprint SOP65P490X110-9N
pins: 1 SHUTDOWN, 2 BYPASS, 3 IN+, 4 IN-, 5 VO1, 6 VDD, 7 GND, 8 VO2

## NS8002
designator IC?
Audio Amplifier, SOP-8, Monaural, 1.8Wx1@4Ω, AB Class Amplifier, Audio Amplifiers, ROHS; Datasheet Link: https://datasheet.lcsc.com/szlcsc/Shenzhen-Nsiway-Tech-NS8002_C189960.pdf; Height: 1.65mm; Value: NS8002
footprint SOIC127P600X165-8N
pins: 1 CTRL, 2 BYPASS, 3 +IN (in), 4 -IN (in), 5 VO1 (out), 6 VCC (power), 7 GND (power), 8 VO2 (out)

## OLED SSD1306 64 I2C
designator U?
OLED, SSD1306, 0.96", 128x64, Breakout, I2C
footprint OLED 0.96 inch OLED Display
pins: 1 VCC, 2 GND, 3 SCL, 4 SDA
text: OLED 0.96"; 128 x 64 pixel

## OLED SSD1306 64 I2C SCREEN ONLY
designator U?, comment OLED_SSD1306  (value not drawn)
OLED, SSD1306, 0.96", 128x64, Breakout, I2C; Value: OLED_SSD1306
footprint OLED 0.96 inch OLED Display Only
pins: 1 MT (in), 2 C2P (in), 3 C2N (in), 4 C1P (in), 5 C1N (in), 6 VBAT (in), 7 NC (in), 8 VSS (power), 9 VDD (power), 10 BS0 (in), 11 BS1 (in), 12 BS2 (in), 13 /CS (in), 14 /RES (in), 15 D/C (in), 16 R/W (in), 17 E/RD (in), 18 D0/DI (io), 19 D1/SCLK (io), 20 D2 (io), 21 D3 (io), 22 D4 (io), 23 D5 (io), 24 D6 (io), 25 D7 (io), 26 IREF (in), 27 VCOMH (out), 28 VCC (power), 29 VLSS (power), 30 MT2 (in)
text: 128x64 OLED

## OSC_2_2012
designator Y?, comment NX2012
Crystal Oscillator, SMD, 2012(2x1.2), Crystals, ROHS; Datasheet Link: https://datasheet.datasheetarchive.com/originals/distributors/Datasheets_SAMA/e448b11b6d77781431a8823f463adabd.pdf; Height: 0.9mm; Value: NX2012
footprint XTL_2_2012 (SMD Crystal)
pins: 1 OSC1, 2 OSC2

## OSC_4_2016
designator Y?, comment NX2016
Crystal Oscillator, SMD, 2016(2x1.6), Crystals, ROHS; Datasheet Link: https://datasheet.datasheetarchive.com/originals/distributors/Datasheets_SAMA/e448b11b6d77781431a8823f463adabd.pdf; Height: 0.9mm; Value: NX2016
footprint XTL_4_2016 (ABM11)
footprint XTL_4_2016A (ABM11)
pins: 1 XA, 2 GND1, 3 XB, 4 GND2

## OSC_4_3225
designator Y?, comment NX3225
Crystal Oscillator, SMD, 3225(3.2x2.5), Crystals, ROHS; Datasheet Link: https://datasheet.datasheetarchive.com/originals/distributors/Datasheets_SAMA/e448b11b6d77781431a8823f463adabd.pdf; Height: 0.9mm; Value: NX3225
footprint XTL_4_3225 (Crystal, 4-Leads, Body 2.50x3.20mm, Pitch 2.20mm, IPC Medium Density)
pins: 1 XA, 2 GND1, 3 XB, 4 GND2

## PAM8403DR
designator IC?
Audio Amplifier, SOIC-16, Dual Channel, 3Wx2@4Ω, Class D Amplifier, Audio Amplifiers, ROHS; Datasheet Link: https://www.diodes.com/assets/Datasheets/products_inactive_data/PAM8403.pdf; Height: 1.26mm; Value: PAM8403DR
footprint SOIC127P600X126-16N
pins: 1 +OUT_L, 2 PGND_1, 3 -OUT_L, 4 PVDD_1, 5 MUTE, 6 VDD, 7 INL, 8 VREF, 9 NC, 10 INR, 11 GND, 12 SHND, 13 PVDD_2, 14 -OUT_R, 15 PGND_2, 16 +OUT_R

## PCA9532PW
designator IC?
LED Driver, TSSOP-24, I2C, 16, 25mA, 2.3V~5.5V, LED Drivers, ROHS; Datasheet Link: http://www.nxp.com/docs/en/data-sheet/PCA9532.pdf; Height: 1.1mm; Value: PCA9532PW
footprint SOP65P640X110-24N
pins: 1 A0, 2 A1, 3 A2, 4 LED0 (out), 5 LED1 (out), 6 LED2 (out), 7 LED3 (out), 8 LED4 (out), 9 LED5 (out), 10 LED6 (out), 11 LED7 (out), 12 VSS (power), 13 LED8 (out), 14 LED9 (out), 15 LED10 (out), 16 LED11 (out), 17 LED12 (out), 18 LED13 (out), 19 LED14 (out), 20 LED15 (out), 21 ~{RESET}, 22 SCL (io), 23 SDA (io), 24 VDD (power)